# Altium schematic symbol library SCH - MCU - SI LABS - SI LABS EZR32HG220F64R67 48-PIN QFN 7X7.SchLib: 1 symbol
Pins are listed as number, name and electrical type; pins without a type are passive.

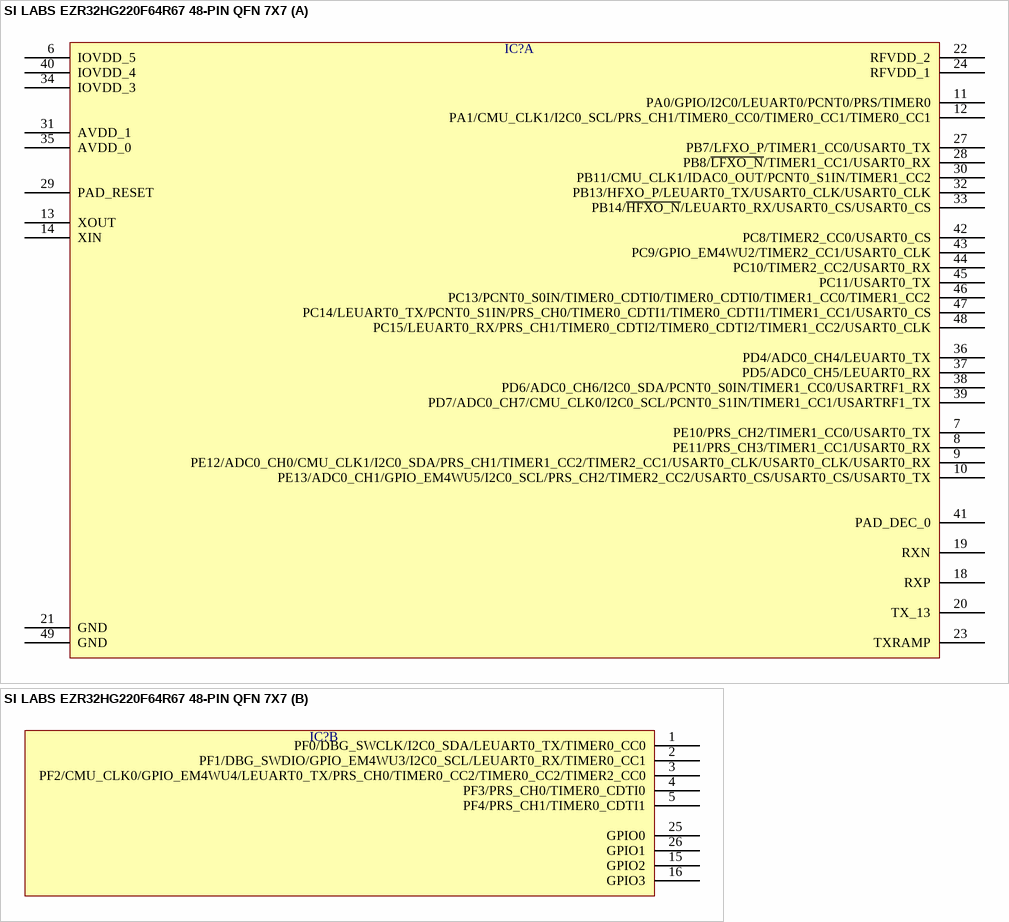
[diagram p0: symbol SI LABS EZR32HG220F64R67 48-PIN QFN 7X7]

## SI LABS EZR32HG220F64R67 48-PIN QFN 7X7
designator IC?  (value not drawn)
part A pins: 6 IOVDD_5, 7 PE10/PRS_CH2/TIMER1_CC0/USART0_TX, 8 PE11/PRS_CH3/TIMER1_CC1/USART0_RX, 9 PE12/ADC0_CH0/CMU_CLK1/I2C0_SDA/PRS_CH1/TIMER1_CC2/TIMER2_CC1/USART0_CLK/USART0_CLK/USART0_RX, 10 PE13/ADC0_CH1/GPIO_EM4WU5/I2C0_SCL/PRS_CH2/TIMER2_CC2/USART0_CS/USART0_CS/USART0_TX, 11 PA0/GPIO/I2C0/LEUART0/PCNT0/PRS/TIMER0, 12 PA1/CMU_CLK1/I2C0_SCL/PRS_CH1/TIMER0_CC0/TIMER0_CC1/TIMER0_CC1, 13 XOUT, 14 XIN, 18 RXP, 19 RXN, 20 TX_13, 21 GND, 22 RFVDD_2, 23 TXRAMP, 24 RFVDD_1, 27 PB7/LFXO_P/TIMER1_CC0/USART0_TX, 28 PB8/~{LFXO_N}/TIMER1_CC1/USART0_RX, 29 PAD_RESET, 30 PB11/CMU_CLK1/IDAC0_OUT/PCNT0_S1IN/TIMER1_CC2, 31 AVDD_1, 32 PB13/HFXO_P/LEUART0_TX/USART0_CLK/USART0_CLK, 33 PB14/~{HFXO_N}/LEUART0_RX/USART0_CS/USART0_CS, 34 IOVDD_3, 35 AVDD_0, 36 PD4/ADC0_CH4/LEUART0_TX, 37 PD5/ADC0_CH5/LEUART0_RX, 38 PD6/ADC0_CH6/I2C0_SDA/PCNT0_S0IN/TIMER1_CC0/USARTRF1_RX, 39 PD7/ADC0_CH7/CMU_CLK0/I2C0_SCL/PCNT0_S1IN/TIMER1_CC1/USARTRF1_TX, 40 IOVDD_4, 41 PAD_DEC_0, 42 PC8/TIMER2_CC0/USART0_CS, 43 PC9/GPIO_EM4WU2/TIMER2_CC1/USART0_CLK, 44 PC10/TIMER2_CC2/USART0_RX, 45 PC11/USART0_TX, 46 PC13/PCNT0_S0IN/TIMER0_CDTI0/TIMER0_CDTI0/TIMER1_CC0/TIMER1_CC2, 47 PC14/LEUART0_TX/PCNT0_S1IN/PRS_CH0/TIMER0_CDTI1/TIMER0_CDTI1/TIMER1_CC1/USART0_CS, 48 PC15/LEUART0_RX/PRS_CH1/TIMER0_CDTI2/TIMER0_CDTI2/TIMER1_CC2/USART0_CLK, 49 GND
part B pins: 1 PF0/DBG_SWCLK/I2C0_SDA/LEUART0_TX/TIMER0_CC0, 2 PF1/DBG_SWDIO/GPIO_EM4WU3/I2C0_SCL/LEUART0_RX/TIMER0_CC1, 3 PF2/CMU_CLK0/GPIO_EM4WU4/LEUART0_TX/PRS_CH0/TIMER0_CC2/TIMER0_CC2/TIMER2_CC0, 4 PF3/PRS_CH0/TIMER0_CDTI0, 5 PF4/PRS_CH1/TIMER0_CDTI1, 15 GPIO2, 16 GPIO3, 25 GPIO0, 26 GPIO1